# EAGLE library part SI4650DY-T1-GE3 (library Vishay)
MOSFET with Schottky Diode
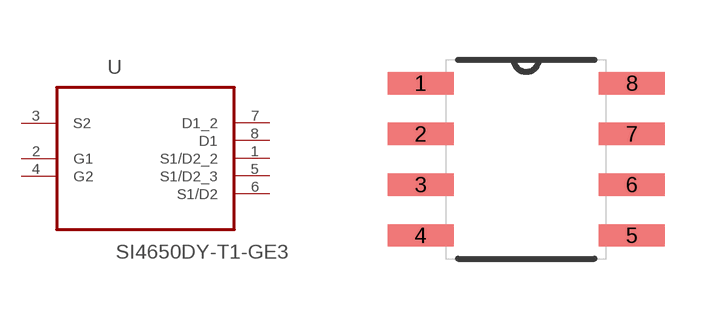
[diagram p91: symbol with the pads of SOIC127P600X175-8N; footprint SOIC127P600X175-8N]

Designator prefix U

## SI4650DY-T1-GE3 (MPN: SI4650DY-T1-GE3; OC_FARNELL: 2056725; OC_NEWARK: 64T4071; PACKAGE: SOIC-8; SUPPLIER: VISHAY SILICONIX)  [SOIC127P600X175-8N]
1  S1/D2_2  pas
2  G1  pas
3  S2  pas
4  G2  pas
5  S1/D2_3  pas
6  S1/D2  pas
7  D1_2  pas
8  D1  pas

## Footprint SOIC127P600X175-8N (pad centres in mm)
smd 1.651 x 0.559: 1 -2.642,1.905; 2 -2.642,0.635; 3 -2.642,-0.635; 4 -2.642,-1.905; 5 2.642,-1.905; 6 2.642,-0.635; 7 2.642,0.635; 8 2.642,1.905